# Altium footprint library SC_SOT23-6.PcbLib: 1 footprints
Each footprint in its own frame and in the unit in brackets; x right, y up, seen from the top. Pads: shape width x height; smd on the part's side, far side on the other; paste and mask are expansions set on the pad; w line width, h text height; cw(c..) or ccw(c..) is an arc to the next point about the centre after c.
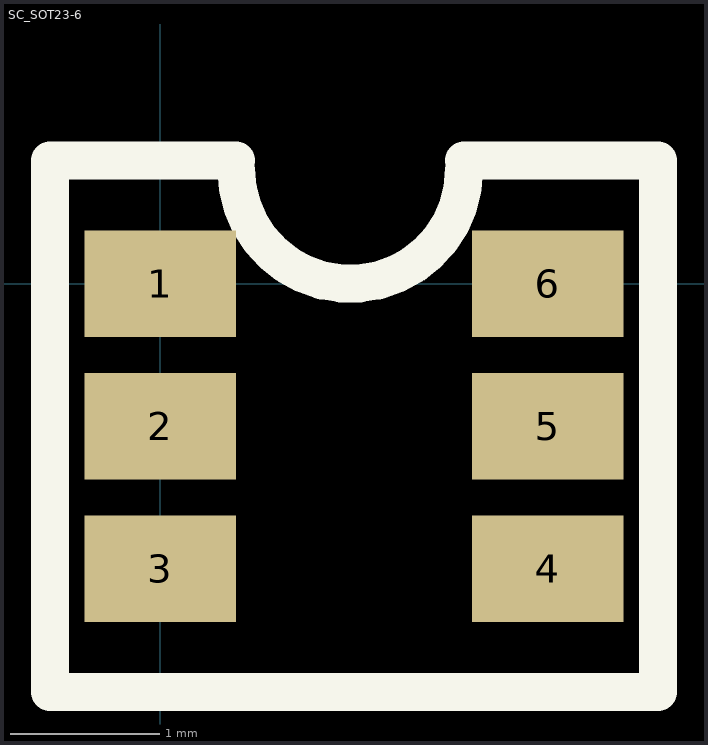
[diagram p0: the footprint, top view; thin cyan lines are the x and y axes]

## SC_SOT23-6 [mil] "SC_SOT23-6"
pads (6):
  rect 40x28 smd: 1(0,0) 2(0,-37.5) 3(0,-75) 4(102,-75) 5(102,-37.5) 6(102,0)
Top Overlay:
  lines w10: 20,30 ccw(c50,30) 80,30 ; 20,32.5 -29,32.5 -29,-107.5 131,-107.5 131,32.5 80,32.5
3D body: height 51.18, standoff 0, extent -8.05,-96.55 110.06,21.56